# Altium footprint library Piezoelectric.PcbLib: 5 footprints
Each footprint in its own frame and in the unit in brackets; x right, y up, seen from the top. Pads: shape width x height; smd on the part's side, far side on the other; paste and mask are expansions set on the pad; w line width, h text height; cw(c..) or ccw(c..) is an arc to the next point about the centre after c.
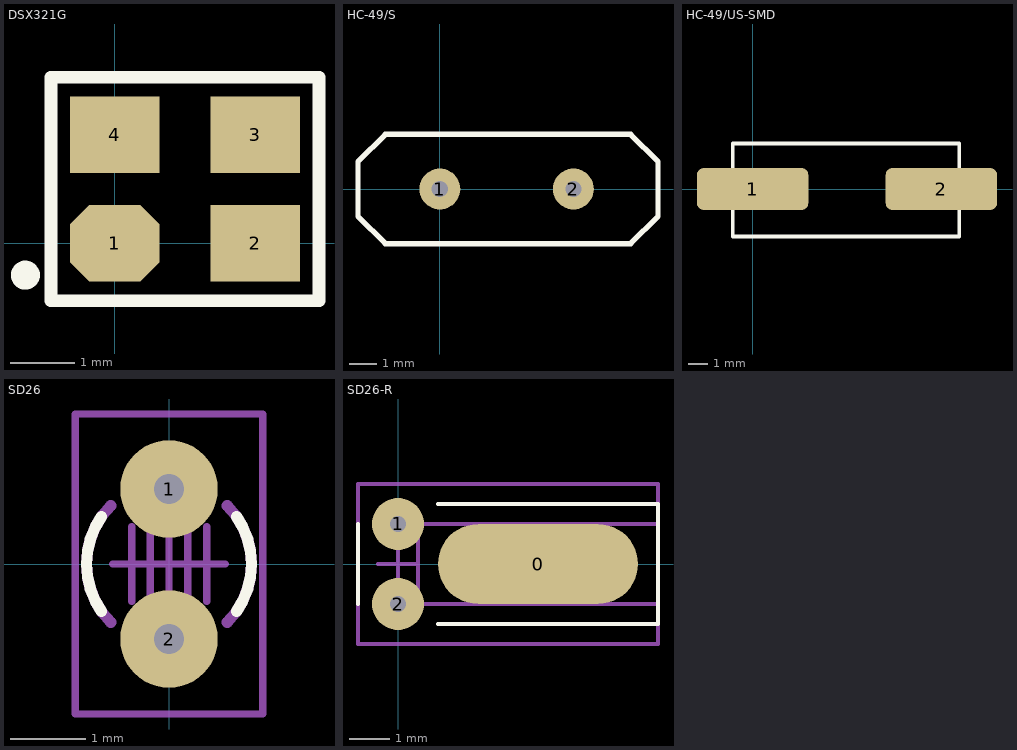
[diagram p0: the footprints below, top view; thin cyan lines are the x and y axes]

## DSX321G [mm]
height 0.8
pads (4):
  oct 1.4x1.2 smd: 1(0,0)
  rect 1.4x1.2 smd: 2(2.2,0) 3(2.2,1.7) 4(0,1.7)
Top Overlay:
  circle w0.254: c-1.4,-0.5 r0.1
  lines w0.2: -1,-0.9 -1,2.6 3.2,2.6 3.2,-0.9 -1,-0.9
3D body "DSX321G.stp": height 0.85, standoff 0, extent -0.5,-0.4 2.7,2.1

## HC-49/S [mm]
pads (2):
  round 1.5 hole 0.6: 1(0,0) 2(4.9,0)
Top Overlay:
  lines w0.2: -3,-1 -3,1 -2,2 7,2 8,1 8,-1 7,-2 -2,-2 -3,-1
3D body: height 3.5, standoff 0, extent -3,-2 8,2
3D body: height 0.2, standoff 0, extent -3.5,-2.5 8.5,2.5

## HC-49/US-SMD [mm]
height 4.2
pads (2):
  rrect30% 5.6x2.1 smd: 1(0,0) 2(9.5,0)
Top Overlay:
  lines w0.2: -1,-2.4 10.4,-2.4 10.4,2.3 -1,2.3 -1,-2.4

## SD26 [mm] "Корпус кварца на 32кГц"
height 6
pads (2):
  round 1.3 hole 0.4: 1(0,1) 2(0,-1)
Top Overlay:
  lines w0.15: -0.901,-0.631 cw(c0,0) -0.901,0.631 ; 0.901,-0.631 ccw(c0,0) 0.901,0.631
Mechanical 13:
  lines w0.1: -0.75,0 -0.5,0 ; -0.5,-0.5 -0.5,0 ; -0.5,0.5 -0.5,0 ; 0.5,-0.5 0.5,0.5 ; 0.5,0 0.75,0 ; -0.25,-0.5 -0.25,0.5 0.25,0.5 0.25,-0.5 -0.25,-0.5
  lines w0.15: -0.778,-0.778 cw(c0,0) -0.778,0.778 ; 0.778,-0.778 ccw(c0,0) 0.778,0.778
Mechanical 15:
  lines w0.1: -0.5,0 0,0 ; 0,-0.5 0,0 ; 0,0.5 0,0 ; 0.5,0 0,0 ; -1.25,-2 -1.25,2 1.25,2 1.25,-2 -1.25,-2
3D body: height 6.1, standoff 0.1, extent -0.992,-0.998 1,0.998

## SD26-R [mm] "Корпус кварца на 32кГц (лежачий)"
height 2
pads (3):
  oval 5x2 smd: 0(3.5,0)
  round 1.3 hole 0.4: 1(0,1) 2(0,-1)
Top Overlay:
  lines w0.1: -1,-1 -1,1 ; 1,-1.5 6.5,-1.5 6.5,1.5 1,1.5
Mechanical 13:
  lines w0.1: 1.5,0 2.5,0 ; 2.5,-0.5 2.5,0 ; 2.5,0.5 2.5,0 ; 4,-0.5 4,0.5 ; 4,0 5,0 ; 0.5,-1 6.5,-1 6.5,1 0.5,1 0.5,-1 ; 3,-0.5 3,0.5 3.5,0.5 3.5,-0.5 3,-0.5
Mechanical 15:
  lines w0.1: -0.5,0 0,0 ; 0,-0.5 0,0 ; 0,0.5 0,0 ; 0.5,0 0,0 ; -1,-2 -1,2 6.5,2 6.5,-2 -1,-2
3D body: height 1.99, standoff 0, extent 0.496,-0.986 6.496,1.01